# Altium footprint library TB-3.5-P.PcbLib: 4 footprints
Each footprint in its own frame and in the unit in brackets; x right, y up, seen from the top. Pads: shape width x height; smd on the part's side, far side on the other; paste and mask are expansions set on the pad; w line width, h text height; cw(c..) or ccw(c..) is an arc to the next point about the centre after c.
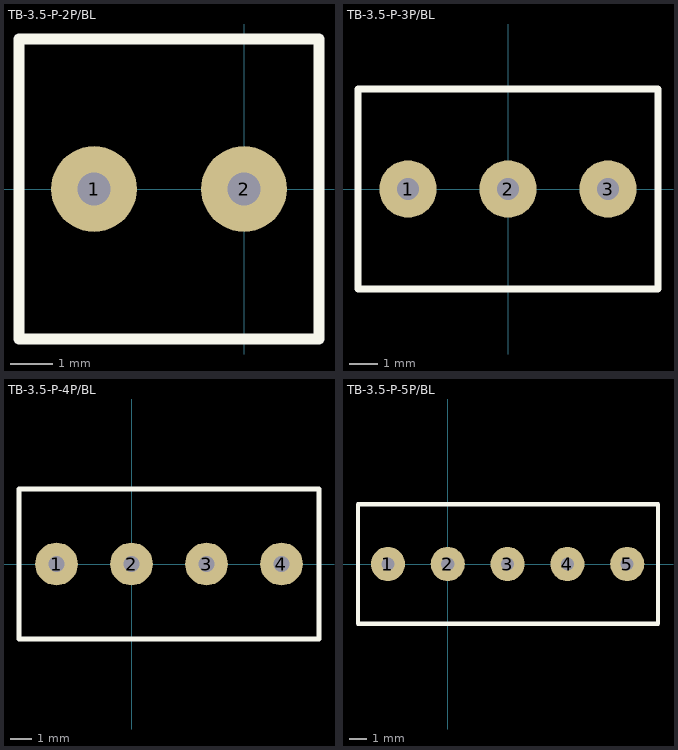
[diagram p0: the footprints below, top view; thin cyan lines are the x and y axes]

## TB-3.5-P-2P/BL [mm] "Клеммник; угловой 90°; 0,5?1,5мм2; 3,5мм; Контактные группы:2"
height 8.4
pads (2):
  round 2 hole 0.762: 1(-3.5,0) 2(0,0)
Top Overlay:
  lines w0.254: -5.25,-3.5 1.75,-3.5 1.75,3.5 -5.25,3.5 -5.25,-3.5
3D body: height 8.4, standoff -3.4, extent -5.75,-3.4 2.25,3.4

## TB-3.5-P-3P/BL [mm] "Клеммник; угловой 90°; 0,5?1,5мм2; 3,5мм; Контактные группы:3"
height 8.4
pads (3):
  round 2 hole 0.762: 1(-3.5,0) 2(0,0) 3(3.5,0)
Top Overlay:
  lines w0.254: -5.25,-3.5 -5.25,3.5 5.25,3.5 5.25,-3.5 -5.25,-3.5
3D body: height 8.4, standoff -3.5, extent -5.75,-2.9 5.75,2.9

## TB-3.5-P-4P/BL [mm] "Клеммник; угловой 90°; 0,5?1,5мм2; 3,5мм; Контактные группы:4"
height 8.4
pads (4):
  round 2 hole 0.762: 1(-3.5,0) 2(0,0) 3(3.5,0) 4(7,0)
Top Overlay:
  lines w0.254: -5.25,-3.5 -5.25,3.5 8.75,3.5 8.75,-3.5 -5.25,-3.5
3D body: height 8.4, standoff -3.4, extent 1.25,-3.4 9.25,3.4
3D body: height 8.4, standoff -3.4, extent -5.75,-3.4 2.25,3.4

## TB-3.5-P-5P/BL [mm] "Клеммник; угловой 90°; 0,5?1,5мм2; 3,5мм; Контактные группы:5"
height 8.4
pads (5):
  round 2 hole 0.762: 1(-3.5,0) 2(0,0) 3(3.5,0) 4(7,0) 5(10.5,0)
Top Overlay:
  lines w0.254: -5.25,-3.5 12.3,-3.5 12.3,3.5 -5.25,3.5 -5.25,-3.5
3D body: height 8.4, standoff -3.5, extent -5.75,-2.9 5.75,2.9
3D body: height 8.4, standoff -3.5, extent 1.25,-2.9 12.75,2.9